# EAGLE library part LM3886 (library LM3886)
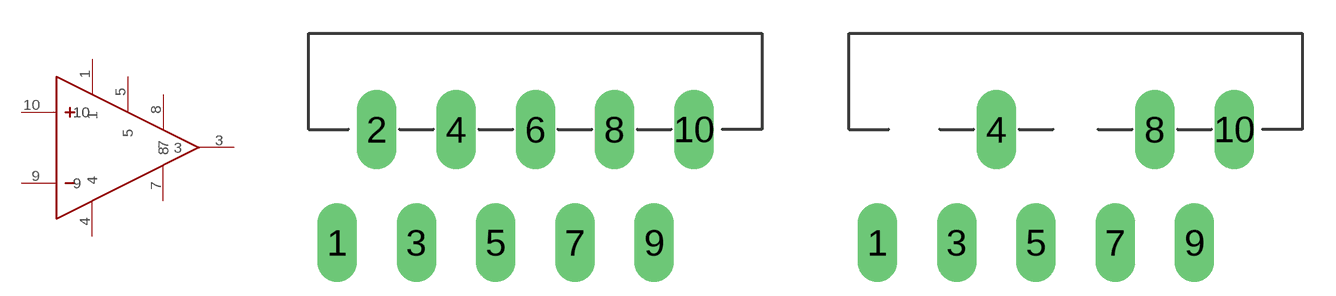
[diagram p0: symbol with the pads of TO220-11; footprints TO220-11, TO220-11M]

Designator prefix -

## LM3886T  [TO220-11]
1  1  pwr
3  3  out
4  4  pwr
5  5  pwr
7  7  pwr
8  8  in
9  9  in
10  10  in

## LM3886M  [TO220-11M]
Pads as for TO220-11

## Footprint TO220-11 (pad centres in mm)
drill 1.016 pad 1.778 long: 1 -8.89,-2.54; 2 -7.112,2.54; 3 -5.334,-2.54; 4 -3.556,2.54; 5 -1.778,-2.54; 6 0,2.54; 7 1.778,-2.54; 8 3.556,2.54; 9 5.334,-2.54; 10 7.112,2.54

## Footprint TO220-11M (pad centres in mm)
drill 1.016 pad 1.778 long: 1 -8.89,-2.54; 3 -5.334,-2.54; 4 -3.556,2.54; 5 -1.778,-2.54; 7 1.778,-2.54; 8 3.556,2.54; 9 5.334,-2.54; 10 7.112,2.54